# Altium footprint library CAPC3225X220N.PcbLib: 1 footprints
Each footprint in its own frame and in the unit in brackets; x right, y up, seen from the top. Pads: shape width x height; smd on the part's side, far side on the other; paste and mask are expansions set on the pad; w line width, h text height; cw(c..) or ccw(c..) is an arc to the next point about the centre after c.
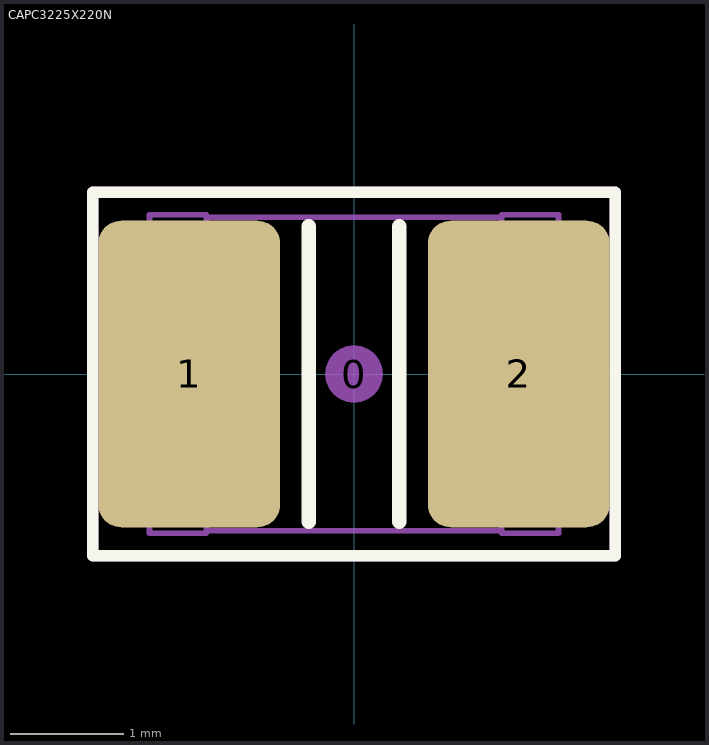
[diagram p0: the footprint, top view; thin cyan lines are the x and y axes]

## CAPC3225X220N [mm] "Chip Capacitor, Body 3.2x2.5mm, EIA 1210, IPC Medium Density"
height 2.2
pads (3):
  round 0.508 on Mech15: 0(0,0)
  rrect25% 1.6x2.7 smd: 1(-1.45,0) 2(1.45,0)
Top Overlay:
  lines w0.1: -2.3,-1.6 2.3,-1.6 2.3,1.6 -2.3,1.6 -2.3,-1.6
  lines w0.127: -0.4,-1.3 -0.4,1.3 ; 0.4,-1.3 0.4,1.3
Mechanical 13:
  lines w0.05: -1.3,-1.38 1.3,-1.38 ; -1.3,1.38 1.3,1.38 ; -1.8,-1.4 -1.8,1.4 -1.3,1.4 -1.3,-1.4 -1.8,-1.4 ; 1.3,-1.4 1.8,-1.4 1.8,1.4 1.3,1.4 1.3,-1.4
Mechanical 15:
  lines w0.1: -2.3,-1.6 -2.3,1.6 2.3,1.6 2.3,-1.6 -2.3,-1.6
3D body "CAP_1210.STEP": height 2.19, standoff -0.01, extent -1.8,-1.4 1.8,1.4